# Altium integrated library TI Amplifiers and Linear PGA-VGA.IntLib: 149 symbols (part 5 of 8)
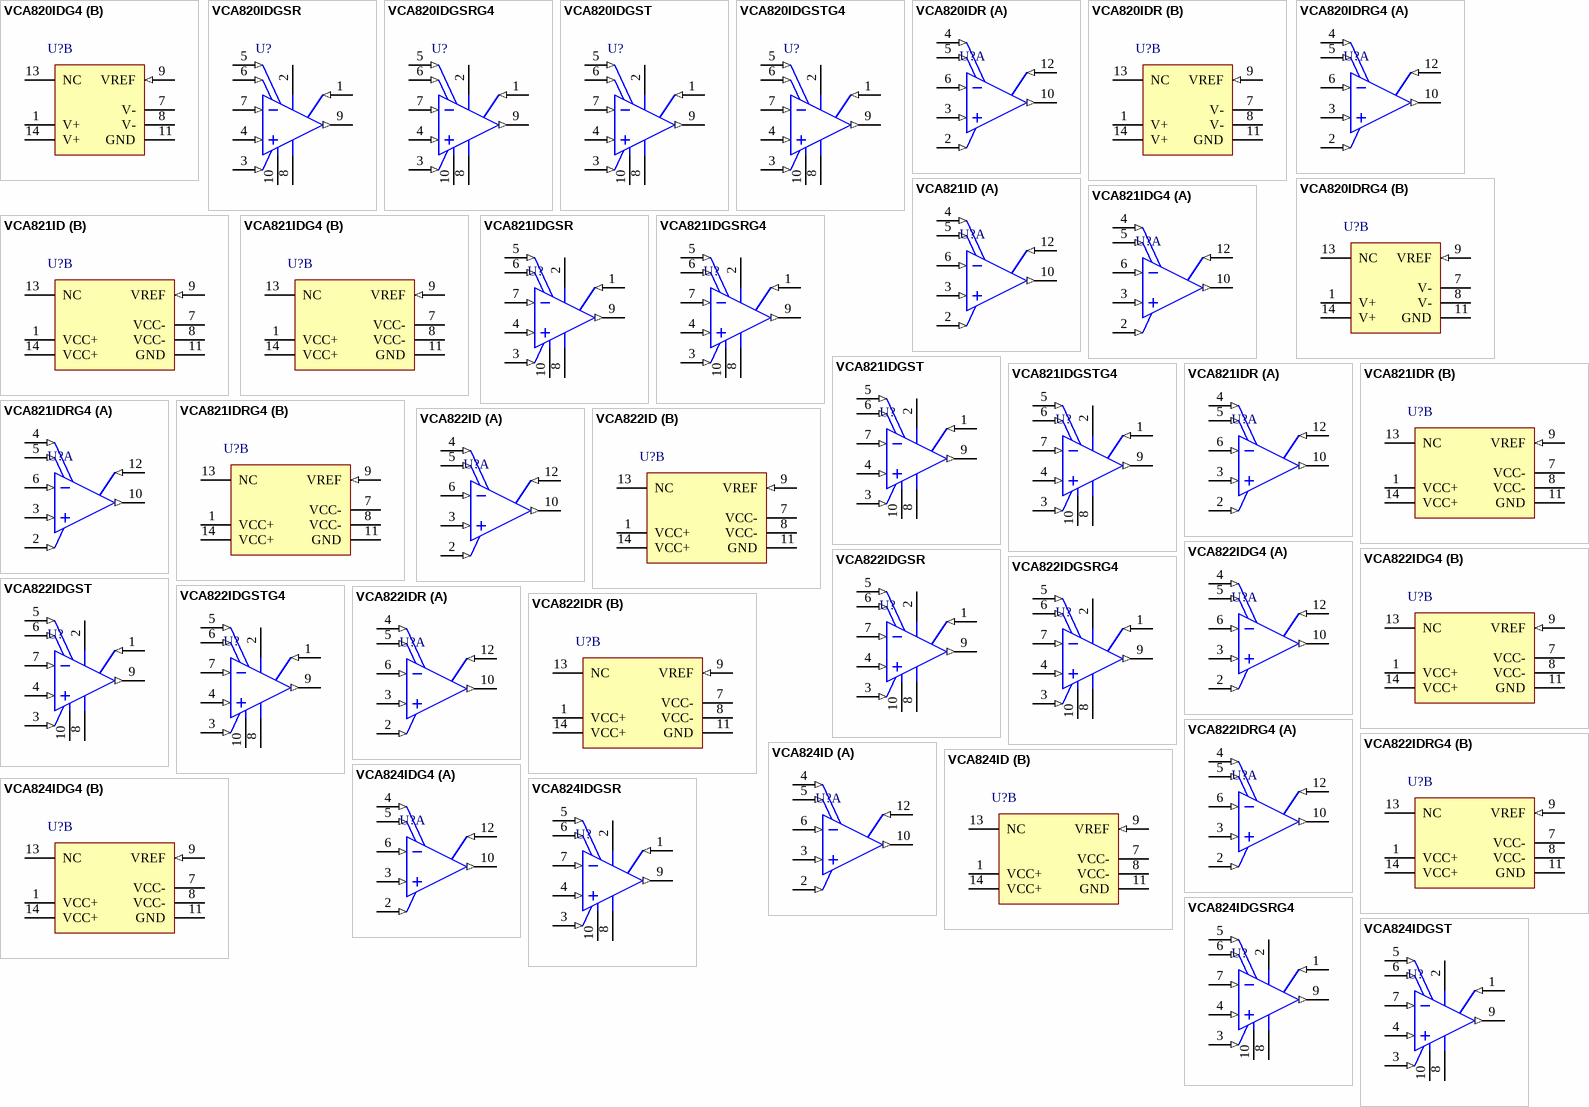
[diagram p11: symbols VCA820IDG4 to VCA824IDGST]

## VCA821IDGSTG4
designator U?
Wideband, > 40 dB Adjust Range, Linear in dB Variable Gain Amplifier, -40 to 85 degC, 10-pin SOP (DGS10), Green (RoHS & no Sb/Br); Manufacturer: Texas Instruments; PartNumber: VCA821IDGSTG4; BW @ Acl(MHz): 710; Iib(Max)(nA): 25000; Number of Channels: 1; Slew Rate(Typ)(V/us): 2500; Vio(Max)(mV): 17; Vn at Flatband(Typ)(nV/rtHz): 6; Vs(Max)(V): 12; Vs(Min)(V): 7; DatasheetVersion: SBOS407B; PackageVersion: 4073272/C, 02/2004; PackageReference: DGS10; PackageDescription: 10-Pin Plastic Small Outline, Body 3 x 3 mm, Pitch 0.5 mm; Supplier 1: Digi-Key; Supplier Part Number 1: VCA821IDGSTG4-ND; Supplier 2: Mouser; Supplier Part Number 2: 595-VCA821IDGSTG4; Eco-Plan: Green (RoHS & no Sb/Br); SubFamily: Variable Gain Amplifier; Mounting Technology: Surface Mount; Code_JEDEC: MO-153; ComponentLink1Description: Manufacturer URL; ComponentLink1URL: http://www.ti.com/; ComponentLink2Description: Datasheet; ComponentLink2URL: http://www.ti.com/general/docs/lit/getliterature.tsp?genericPartNumber=VCA821&fileType=pdf; ComponentLink3Description: Package Specification; ComponentLink3URL: http://www.ti.com/lit/ml/mpds035b/mpds035b.pdf
footprint TI-DGS10_N (SOP, 10-Leads, Body 3.1x3.1mm, Pitch 0.5mm, IPC Medium Density)
footprint TI-DGS10_L (SOP, 10-Leads, Body 3.1x3.1mm, Pitch 0.5mm, IPC High Density)
footprint TI-DGS10_M (SOP, 10-Leads, Body 3.1x3.1mm, Pitch 0.5mm, IPC Low Density)
pins: 1 FB (in), 2 VCC+ (power), 3 VG (in), 4 VIN+ (in), 5 RG+ (in), 6 RG- (in), 7 VIN- (in), 8 VCC- (power), 9 VOUT (out), 10 GND (power)

## VCA821IDR
designator U?
Wideband, > 40 dB Adjust Range, Linear in dB Variable Gain Amplifier, -40 to 85 degC, 14-pin SOIC (D14), Green (RoHS & no Sb/Br); Manufacturer: Texas Instruments; PartNumber: VCA821IDR; BW @ Acl(MHz): 710; Iib(Max)(nA): 25000; Number of Channels: 1; Slew Rate(Typ)(V/us): 2500; Vio(Max)(mV): 17; Vn at Flatband(Typ)(nV/rtHz): 6; Vs(Max)(V): 12; Vs(Min)(V): 7; DatasheetVersion: SBOS407B; PackageVersion: 4040047-5/M, 06/2011; PackageReference: D14; PackageDescription: 14-Pin Plastic Small Outline, Body 8.65 x 3.9 mm, Pitch 1.27 mm; Supplier 1: Digi-Key; Supplier Part Number 1: VCA821IDR-ND; Supplier 2: Mouser; Supplier Part Number 2: 595-VCA821IDR; Eco-Plan: Green (RoHS & no Sb/Br); SubFamily: Variable Gain Amplifier; Mounting Technology: Surface Mount; Code_JEDEC: MS-012; ComponentLink1Description: Manufacturer URL; ComponentLink1URL: http://www.ti.com/; ComponentLink2Description: Datasheet; ComponentLink2URL: http://www.ti.com/general/docs/lit/getliterature.tsp?genericPartNumber=VCA821&fileType=pdf; ComponentLink3Description: Package Specification; ComponentLink3URL: http://www.ti.com/lit/ml/mpds177g/mpds177g.pdf
footprint TI-D14_N (SOIC, 14-Leads, Body 8.75x4mm, Pitch 1.27mm, IPC Medium Density)
footprint TI-D14_L (SOIC, 14-Leads, Body 8.75x4mm, Pitch 1.27mm, IPC High Density)
footprint TI-D14_M (SOIC, 14-Leads, Body 8.75x4mm, Pitch 1.27mm, IPC Low Density)
part A pins: 2 VG (in), 3 VIN+ (in), 4 RG+ (in), 5 RG- (in), 6 VIN- (in), 10 VOUT (out), 12 FB (in)
part B pins: 1 VCC+ (power), 7 VCC- (power), 8 VCC- (power), 9 VREF (in), 11 GND (power), 13 NC, 14 VCC+ (power)

## VCA821IDRG4
designator U?
Wideband, > 40 dB Adjust Range, Linear in dB Variable Gain Amplifier, -40 to 85 degC, 14-pin SOIC (D14), Green (RoHS & no Sb/Br); Manufacturer: Texas Instruments; PartNumber: VCA821IDRG4; BW @ Acl(MHz): 710; Iib(Max)(nA): 25000; Number of Channels: 1; Slew Rate(Typ)(V/us): 2500; Vio(Max)(mV): 17; Vn at Flatband(Typ)(nV/rtHz): 6; Vs(Max)(V): 12; Vs(Min)(V): 7; DatasheetVersion: SBOS407B; PackageVersion: 4040047-5/M, 06/2011; PackageReference: D14; PackageDescription: 14-Pin Plastic Small Outline, Body 8.65 x 3.9 mm, Pitch 1.27 mm; Supplier 1: Digi-Key; Supplier Part Number 1: VCA821IDRG4-ND; Supplier 2: Mouser; Supplier Part Number 2: 595-VCA821IDRG4; Eco-Plan: Green (RoHS & no Sb/Br); SubFamily: Variable Gain Amplifier; Mounting Technology: Surface Mount; Code_JEDEC: MS-012; ComponentLink1Description: Manufacturer URL; ComponentLink1URL: http://www.ti.com/; ComponentLink2Description: Datasheet; ComponentLink2URL: http://www.ti.com/general/docs/lit/getliterature.tsp?genericPartNumber=VCA821&fileType=pdf; ComponentLink3Description: Package Specification; ComponentLink3URL: http://www.ti.com/lit/ml/mpds177g/mpds177g.pdf
footprint TI-D14_N (SOIC, 14-Leads, Body 8.75x4mm, Pitch 1.27mm, IPC Medium Density)
footprint TI-D14_L (SOIC, 14-Leads, Body 8.75x4mm, Pitch 1.27mm, IPC High Density)
footprint TI-D14_M (SOIC, 14-Leads, Body 8.75x4mm, Pitch 1.27mm, IPC Low Density)
part A pins: 2 VG (in), 3 VIN+ (in), 4 RG+ (in), 5 RG- (in), 6 VIN- (in), 10 VOUT (out), 12 FB (in)
part B pins: 1 VCC+ (power), 7 VCC- (power), 8 VCC- (power), 9 VREF (in), 11 GND (power), 13 NC, 14 VCC+ (power)

## VCA822ID
designator U?
Wideband, > 40 dB Gain Adjust Range, Linear in V/V Variable Gain Amplifier, -40 to 85 degC, 14-pin SOIC (D14), Green (RoHS & no Sb/Br); Manufacturer: Texas Instruments; PartNumber: VCA822ID; Iib(Max)(nA): 25000; Number of Channels: 1; Slew Rate(Typ)(V/us): 1700; Vio(Max)(mV): 17; Vn at Flatband(Typ)(nV/rtHz): 8.2; Vs(Max)(V): 12; Vs(Min)(V): 7; DatasheetVersion: SBOS343C; PackageVersion: 4040047-5/M, 06/2011; PackageReference: D14; PackageDescription: 14-Pin Plastic Small Outline, Body 8.65 x 3.9 mm, Pitch 1.27 mm; Supplier 1: Digi-Key; Supplier Part Number 1: 296-22682-5-ND; Supplier 2: Farnell; Supplier Part Number 2: 1755566; Supplier 3: Newark; Supplier Part Number 3: 50R6972; Supplier 4: Newark; Supplier Part Number 4: 60M2703; Supplier 5: Mouser; Supplier Part Number 5: 595-VCA822ID; Eco-Plan: Green (RoHS & no Sb/Br); SubFamily: Variable Gain Amplifier; Mounting Technology: Surface Mount; Code_JEDEC: MS-012; ComponentLink1Description: Manufacturer URL; ComponentLink1URL: http://www.ti.com/; ComponentLink2Description: Datasheet; ComponentLink2URL: http://www.ti.com/general/docs/lit/getliterature.tsp?genericPartNumber=VCA822&fileType=pdf; ComponentLink3Description: Package Specification; ComponentLink3URL: http://www.ti.com/lit/ml/mpds177g/mpds177g.pdf
footprint TI-D14_N (SOIC, 14-Leads, Body 8.75x4mm, Pitch 1.27mm, IPC Medium Density)
footprint TI-D14_L (SOIC, 14-Leads, Body 8.75x4mm, Pitch 1.27mm, IPC High Density)
footprint TI-D14_M (SOIC, 14-Leads, Body 8.75x4mm, Pitch 1.27mm, IPC Low Density)
part A pins: 2 VG (in), 3 VIN+ (in), 4 RG+ (in), 5 RG- (in), 6 VIN- (in), 10 VOUT (out), 12 FB (in)
part B pins: 1 VCC+ (power), 7 VCC- (power), 8 VCC- (power), 9 VREF (in), 11 GND (power), 13 NC, 14 VCC+ (power)

## VCA822IDG4
designator U?
Wideband, > 40 dB Gain Adjust Range, Linear in V/V Variable Gain Amplifier, -40 to 85 degC, 14-pin SOIC (D14), Green (RoHS & no Sb/Br); Manufacturer: Texas Instruments; PartNumber: VCA822IDG4; Iib(Max)(nA): 25000; Number of Channels: 1; Slew Rate(Typ)(V/us): 1700; Vio(Max)(mV): 17; Vn at Flatband(Typ)(nV/rtHz): 8.2; Vs(Max)(V): 12; Vs(Min)(V): 7; DatasheetVersion: SBOS343C; PackageVersion: 4040047-5/M, 06/2011; PackageReference: D14; PackageDescription: 14-Pin Plastic Small Outline, Body 8.65 x 3.9 mm, Pitch 1.27 mm; Supplier 1: Digi-Key; Supplier Part Number 1: VCA822IDG4-ND; Supplier 2: Mouser; Supplier Part Number 2: 595-VCA822IDG4; Eco-Plan: Green (RoHS & no Sb/Br); SubFamily: Variable Gain Amplifier; Mounting Technology: Surface Mount; Code_JEDEC: MS-012; ComponentLink1Description: Manufacturer URL; ComponentLink1URL: http://www.ti.com/; ComponentLink2Description: Datasheet; ComponentLink2URL: http://www.ti.com/general/docs/lit/getliterature.tsp?genericPartNumber=VCA822&fileType=pdf; ComponentLink3Description: Package Specification; ComponentLink3URL: http://www.ti.com/lit/ml/mpds177g/mpds177g.pdf
footprint TI-D14_N (SOIC, 14-Leads, Body 8.75x4mm, Pitch 1.27mm, IPC Medium Density)
footprint TI-D14_L (SOIC, 14-Leads, Body 8.75x4mm, Pitch 1.27mm, IPC High Density)
footprint TI-D14_M (SOIC, 14-Leads, Body 8.75x4mm, Pitch 1.27mm, IPC Low Density)
part A pins: 2 VG (in), 3 VIN+ (in), 4 RG+ (in), 5 RG- (in), 6 VIN- (in), 10 VOUT (out), 12 FB (in)
part B pins: 1 VCC+ (power), 7 VCC- (power), 8 VCC- (power), 9 VREF (in), 11 GND (power), 13 NC, 14 VCC+ (power)

## VCA822IDGSR
designator U?
Wideband, > 40 dB Gain Adjust Range, Linear in V/V Variable Gain Amplifier, -40 to 85 degC, 10-pin SOP (DGS10), Green (RoHS & no Sb/Br); Manufacturer: Texas Instruments; PartNumber: VCA822IDGSR; Iib(Max)(nA): 25000; Number of Channels: 1; Slew Rate(Typ)(V/us): 1700; Vio(Max)(mV): 17; Vn at Flatband(Typ)(nV/rtHz): 8.2; Vs(Max)(V): 12; Vs(Min)(V): 7; DatasheetVersion: SBOS343C; PackageVersion: 4073272/C, 02/2004; PackageReference: DGS10; PackageDescription: 10-Pin Plastic Small Outline, Body 3 x 3 mm, Pitch 0.5 mm; Supplier 1: Digi-Key; Supplier Part Number 1: VCA822IDGSR-ND; Supplier 2: Mouser; Supplier Part Number 2: 595-VCA822IDGSR; Eco-Plan: Green (RoHS & no Sb/Br); SubFamily: Variable Gain Amplifier; Mounting Technology: Surface Mount; Code_JEDEC: MO-153; ComponentLink1Description: Manufacturer URL; ComponentLink1URL: http://www.ti.com/; ComponentLink2Description: Datasheet; ComponentLink2URL: http://www.ti.com/general/docs/lit/getliterature.tsp?genericPartNumber=VCA822&fileType=pdf; ComponentLink3Description: Package Specification; ComponentLink3URL: http://www.ti.com/lit/ml/mpds035b/mpds035b.pdf
footprint TI-DGS10_N (SOP, 10-Leads, Body 3.1x3.1mm, Pitch 0.5mm, IPC Medium Density)
footprint TI-DGS10_L (SOP, 10-Leads, Body 3.1x3.1mm, Pitch 0.5mm, IPC High Density)
footprint TI-DGS10_M (SOP, 10-Leads, Body 3.1x3.1mm, Pitch 0.5mm, IPC Low Density)
pins: 1 FB (in), 2 VCC+ (power), 3 VG (in), 4 VIN+ (in), 5 RG+ (in), 6 RG- (in), 7 VIN- (in), 8 VCC- (power), 9 VOUT (out), 10 GND (power)

## VCA822IDGSRG4
designator U?
Wideband, > 40 dB Gain Adjust Range, Linear in V/V Variable Gain Amplifier, -40 to 85 degC, 10-pin SOP (DGS10), Green (RoHS & no Sb/Br); Manufacturer: Texas Instruments; PartNumber: VCA822IDGSRG4; Iib(Max)(nA): 25000; Number of Channels: 1; Slew Rate(Typ)(V/us): 1700; Vio(Max)(mV): 17; Vn at Flatband(Typ)(nV/rtHz): 8.2; Vs(Max)(V): 12; Vs(Min)(V): 7; DatasheetVersion: SBOS343C; PackageVersion: 4073272/C, 02/2004; PackageReference: DGS10; PackageDescription: 10-Pin Plastic Small Outline, Body 3 x 3 mm, Pitch 0.5 mm; Supplier 1: Digi-Key; Supplier Part Number 1: VCA822IDGSRG4-ND; Supplier 2: Mouser; Supplier Part Number 2: 595-VCA822IDGSRG4; Eco-Plan: Green (RoHS & no Sb/Br); SubFamily: Variable Gain Amplifier; Mounting Technology: Surface Mount; Code_JEDEC: MO-153; ComponentLink1Description: Manufacturer URL; ComponentLink1URL: http://www.ti.com/; ComponentLink2Description: Datasheet; ComponentLink2URL: http://www.ti.com/general/docs/lit/getliterature.tsp?genericPartNumber=VCA822&fileType=pdf; ComponentLink3Description: Package Specification; ComponentLink3URL: http://www.ti.com/lit/ml/mpds035b/mpds035b.pdf
footprint TI-DGS10_N (SOP, 10-Leads, Body 3.1x3.1mm, Pitch 0.5mm, IPC Medium Density)
footprint TI-DGS10_L (SOP, 10-Leads, Body 3.1x3.1mm, Pitch 0.5mm, IPC High Density)
footprint TI-DGS10_M (SOP, 10-Leads, Body 3.1x3.1mm, Pitch 0.5mm, IPC Low Density)
pins: 1 FB (in), 2 VCC+ (power), 3 VG (in), 4 VIN+ (in), 5 RG+ (in), 6 RG- (in), 7 VIN- (in), 8 VCC- (power), 9 VOUT (out), 10 GND (power)

## VCA822IDGST
designator U?
Wideband, > 40 dB Gain Adjust Range, Linear in V/V Variable Gain Amplifier, -40 to 85 degC, 10-pin SOP (DGS10), Green (RoHS & no Sb/Br); Manufacturer: Texas Instruments; PartNumber: VCA822IDGST; Iib(Max)(nA): 25000; Number of Channels: 1; Slew Rate(Typ)(V/us): 1700; Vio(Max)(mV): 17; Vn at Flatband(Typ)(nV/rtHz): 8.2; Vs(Max)(V): 12; Vs(Min)(V): 7; DatasheetVersion: SBOS343C; PackageVersion: 4073272/C, 02/2004; PackageReference: DGS10; PackageDescription: 10-Pin Plastic Small Outline, Body 3 x 3 mm, Pitch 0.5 mm; Supplier 1: Digi-Key; Supplier Part Number 1: 296-22683-2-ND; Supplier 2: Digi-Key; Supplier Part Number 2: 296-22683-1-ND; Supplier 3: Digi-Key; Supplier Part Number 3: 296-22683-6-ND; Supplier 4: Mouser; Supplier Part Number 4: 595-VCA822IDGST; Eco-Plan: Green (RoHS & no Sb/Br); SubFamily: Variable Gain Amplifier; Mounting Technology: Surface Mount; Code_JEDEC: MO-153; ComponentLink1Description: Manufacturer URL; ComponentLink1URL: http://www.ti.com/; ComponentLink2Description: Datasheet; ComponentLink2URL: http://www.ti.com/general/docs/lit/getliterature.tsp?genericPartNumber=VCA822&fileType=pdf; ComponentLink3Description: Package Specification; ComponentLink3URL: http://www.ti.com/lit/ml/mpds035b/mpds035b.pdf
footprint TI-DGS10_N (SOP, 10-Leads, Body 3.1x3.1mm, Pitch 0.5mm, IPC Medium Density)
footprint TI-DGS10_L (SOP, 10-Leads, Body 3.1x3.1mm, Pitch 0.5mm, IPC High Density)
footprint TI-DGS10_M (SOP, 10-Leads, Body 3.1x3.1mm, Pitch 0.5mm, IPC Low Density)
pins: 1 FB (in), 2 VCC+ (power), 3 VG (in), 4 VIN+ (in), 5 RG+ (in), 6 RG- (in), 7 VIN- (in), 8 VCC- (power), 9 VOUT (out), 10 GND (power)

## VCA822IDGSTG4
designator U?
Wideband, > 40 dB Gain Adjust Range, Linear in V/V Variable Gain Amplifier, -40 to 85 degC, 10-pin SOP (DGS10), Green (RoHS & no Sb/Br); Manufacturer: Texas Instruments; PartNumber: VCA822IDGSTG4; Iib(Max)(nA): 25000; Number of Channels: 1; Slew Rate(Typ)(V/us): 1700; Vio(Max)(mV): 17; Vn at Flatband(Typ)(nV/rtHz): 8.2; Vs(Max)(V): 12; Vs(Min)(V): 7; DatasheetVersion: SBOS343C; PackageVersion: 4073272/C, 02/2004; PackageReference: DGS10; PackageDescription: 10-Pin Plastic Small Outline, Body 3 x 3 mm, Pitch 0.5 mm; Supplier 1: Digi-Key; Supplier Part Number 1: VCA822IDGSTG4-ND; Supplier 2: Mouser; Supplier Part Number 2: 595-VCA822IDGSTG4; Eco-Plan: Green (RoHS & no Sb/Br); SubFamily: Variable Gain Amplifier; Mounting Technology: Surface Mount; Code_JEDEC: MO-153; ComponentLink1Description: Manufacturer URL; ComponentLink1URL: http://www.ti.com/; ComponentLink2Description: Datasheet; ComponentLink2URL: http://www.ti.com/general/docs/lit/getliterature.tsp?genericPartNumber=VCA822&fileType=pdf; ComponentLink3Description: Package Specification; ComponentLink3URL: http://www.ti.com/lit/ml/mpds035b/mpds035b.pdf
footprint TI-DGS10_N (SOP, 10-Leads, Body 3.1x3.1mm, Pitch 0.5mm, IPC Medium Density)
footprint TI-DGS10_L (SOP, 10-Leads, Body 3.1x3.1mm, Pitch 0.5mm, IPC High Density)
footprint TI-DGS10_M (SOP, 10-Leads, Body 3.1x3.1mm, Pitch 0.5mm, IPC Low Density)
pins: 1 FB (in), 2 VCC+ (power), 3 VG (in), 4 VIN+ (in), 5 RG+ (in), 6 RG- (in), 7 VIN- (in), 8 VCC- (power), 9 VOUT (out), 10 GND (power)

## VCA822IDR
designator U?
Wideband, > 40 dB Gain Adjust Range, Linear in V/V Variable Gain Amplifier, -40 to 85 degC, 14-pin SOIC (D14), Green (RoHS & no Sb/Br); Manufacturer: Texas Instruments; PartNumber: VCA822IDR; Iib(Max)(nA): 25000; Number of Channels: 1; Slew Rate(Typ)(V/us): 1700; Vio(Max)(mV): 17; Vn at Flatband(Typ)(nV/rtHz): 8.2; Vs(Max)(V): 12; Vs(Min)(V): 7; DatasheetVersion: SBOS343C; PackageVersion: 4040047-5/M, 06/2011; PackageReference: D14; PackageDescription: 14-Pin Plastic Small Outline, Body 8.65 x 3.9 mm, Pitch 1.27 mm; Supplier 1: Digi-Key; Supplier Part Number 1: VCA822IDR-ND; Supplier 2: Mouser; Supplier Part Number 2: 595-VCA822IDR; Eco-Plan: Green (RoHS & no Sb/Br); SubFamily: Variable Gain Amplifier; Mounting Technology: Surface Mount; Code_JEDEC: MS-012; ComponentLink1Description: Manufacturer URL; ComponentLink1URL: http://www.ti.com/; ComponentLink2Description: Datasheet; ComponentLink2URL: http://www.ti.com/general/docs/lit/getliterature.tsp?genericPartNumber=VCA822&fileType=pdf; ComponentLink3Description: Package Specification; ComponentLink3URL: http://www.ti.com/lit/ml/mpds177g/mpds177g.pdf
footprint TI-D14_N (SOIC, 14-Leads, Body 8.75x4mm, Pitch 1.27mm, IPC Medium Density)
footprint TI-D14_L (SOIC, 14-Leads, Body 8.75x4mm, Pitch 1.27mm, IPC High Density)
footprint TI-D14_M (SOIC, 14-Leads, Body 8.75x4mm, Pitch 1.27mm, IPC Low Density)
part A pins: 2 VG (in), 3 VIN+ (in), 4 RG+ (in), 5 RG- (in), 6 VIN- (in), 10 VOUT (out), 12 FB (in)
part B pins: 1 VCC+ (power), 7 VCC- (power), 8 VCC- (power), 9 VREF (in), 11 GND (power), 13 NC, 14 VCC+ (power)

## VCA822IDRG4
designator U?
Wideband, > 40 dB Gain Adjust Range, Linear in V/V Variable Gain Amplifier, -40 to 85 degC, 14-pin SOIC (D14), Green (RoHS & no Sb/Br); Manufacturer: Texas Instruments; PartNumber: VCA822IDRG4; Iib(Max)(nA): 25000; Number of Channels: 1; Slew Rate(Typ)(V/us): 1700; Vio(Max)(mV): 17; Vn at Flatband(Typ)(nV/rtHz): 8.2; Vs(Max)(V): 12; Vs(Min)(V): 7; DatasheetVersion: SBOS343C; PackageVersion: 4040047-5/M, 06/2011; PackageReference: D14; PackageDescription: 14-Pin Plastic Small Outline, Body 8.65 x 3.9 mm, Pitch 1.27 mm; Supplier 1: Digi-Key; Supplier Part Number 1: VCA822IDRG4-ND; Supplier 2: Newark; Supplier Part Number 2: 60M2710; Supplier 3: Mouser; Supplier Part Number 3: 595-VCA822IDRG4; Eco-Plan: Green (RoHS & no Sb/Br); SubFamily: Variable Gain Amplifier; Mounting Technology: Surface Mount; Code_JEDEC: MS-012; ComponentLink1Description: Manufacturer URL; ComponentLink1URL: http://www.ti.com/; ComponentLink2Description: Datasheet; ComponentLink2URL: http://www.ti.com/general/docs/lit/getliterature.tsp?genericPartNumber=VCA822&fileType=pdf; ComponentLink3Description: Package Specification; ComponentLink3URL: http://www.ti.com/lit/ml/mpds177g/mpds177g.pdf
footprint TI-D14_N (SOIC, 14-Leads, Body 8.75x4mm, Pitch 1.27mm, IPC Medium Density)
footprint TI-D14_L (SOIC, 14-Leads, Body 8.75x4mm, Pitch 1.27mm, IPC High Density)
footprint TI-D14_M (SOIC, 14-Leads, Body 8.75x4mm, Pitch 1.27mm, IPC Low Density)
part A pins: 2 VG (in), 3 VIN+ (in), 4 RG+ (in), 5 RG- (in), 6 VIN- (in), 10 VOUT (out), 12 FB (in)
part B pins: 1 VCC+ (power), 7 VCC- (power), 8 VCC- (power), 9 VREF (in), 11 GND (power), 13 NC, 14 VCC+ (power)

## VCA824ID
designator U?
Wideband 420 MHz, > 40 dB Gain Adjust Range, Linear in V/V Variable Gain Amplifier, -40 to 85 degC, 14-pin SOIC (D14), Green (RoHS & no Sb/Br); Manufacturer: Texas Instruments; PartNumber: VCA824ID; BW @ Acl(MHz): 710; Iib(Max)(nA): 25000; Number of Channels: 1; Slew Rate(Typ)(V/us): 2500; Vio(Max)(mV): 17; Vn at Flatband(Typ)(nV/rtHz): 6; Vs(Max)(V): 12; Vs(Min)(V): 8; DatasheetVersion: SBOS394C; PackageVersion: 4040047-5/M, 06/2011; PackageReference: D14; PackageDescription: 14-Pin Plastic Small Outline, Body 8.65 x 3.9 mm, Pitch 1.27 mm; Supplier 1: Digi-Key; Supplier Part Number 1: 296-22898-5-ND; Supplier 2: Farnell; Supplier Part Number 2: 1755567; Supplier 3: Newark; Supplier Part Number 3: 50R6973; Supplier 4: Newark; Supplier Part Number 4: 65M6471; Supplier 5: Mouser; Supplier Part Number 5: 595-VCA824ID; Eco-Plan: Green (RoHS & no Sb/Br); SubFamily: Variable Gain Amplifier; Mounting Technology: Surface Mount; Code_JEDEC: MS-012; ComponentLink1Description: Manufacturer URL; ComponentLink1URL: http://www.ti.com/; ComponentLink2Description: Datasheet; ComponentLink2URL: http://www.ti.com/general/docs/lit/getliterature.tsp?genericPartNumber=VCA824&fileType=pdf; ComponentLink3Description: Package Specification; ComponentLink3URL: http://www.ti.com/lit/ml/mpds177g/mpds177g.pdf
footprint TI-D14_N (SOIC, 14-Leads, Body 8.75x4mm, Pitch 1.27mm, IPC Medium Density)
footprint TI-D14_L (SOIC, 14-Leads, Body 8.75x4mm, Pitch 1.27mm, IPC High Density)
footprint TI-D14_M (SOIC, 14-Leads, Body 8.75x4mm, Pitch 1.27mm, IPC Low Density)
part A pins: 2 VG (in), 3 VIN+ (in), 4 RG+ (in), 5 RG- (in), 6 VIN- (in), 10 VOUT (out), 12 FB (in)
part B pins: 1 VCC+ (power), 7 VCC- (power), 8 VCC- (power), 9 VREF (in), 11 GND (power), 13 NC, 14 VCC+ (power)

## VCA824IDG4
designator U?
Wideband 420 MHz, > 40 dB Gain Adjust Range, Linear in V/V Variable Gain Amplifier, -40 to 85 degC, 14-pin SOIC (D14), Green (RoHS & no Sb/Br); Manufacturer: Texas Instruments; PartNumber: VCA824IDG4; BW @ Acl(MHz): 710; Iib(Max)(nA): 25000; Number of Channels: 1; Slew Rate(Typ)(V/us): 2500; Vio(Max)(mV): 17; Vn at Flatband(Typ)(nV/rtHz): 6; Vs(Max)(V): 12; Vs(Min)(V): 8; DatasheetVersion: SBOS394C; PackageVersion: 4040047-5/M, 06/2011; PackageReference: D14; PackageDescription: 14-Pin Plastic Small Outline, Body 8.65 x 3.9 mm, Pitch 1.27 mm; Supplier 1: Digi-Key; Supplier Part Number 1: VCA824IDG4-ND; Supplier 2: Newark; Supplier Part Number 2: 95M0220; Supplier 3: Mouser; Supplier Part Number 3: 595-VCA824IDG4; Eco-Plan: Green (RoHS & no Sb/Br); SubFamily: Variable Gain Amplifier; Mounting Technology: Surface Mount; Code_JEDEC: MS-012; ComponentLink1Description: Manufacturer URL; ComponentLink1URL: http://www.ti.com/; ComponentLink2Description: Datasheet; ComponentLink2URL: http://www.ti.com/general/docs/lit/getliterature.tsp?genericPartNumber=VCA824&fileType=pdf; ComponentLink3Description: Package Specification; ComponentLink3URL: http://www.ti.com/lit/ml/mpds177g/mpds177g.pdf
footprint TI-D14_N (SOIC, 14-Leads, Body 8.75x4mm, Pitch 1.27mm, IPC Medium Density)
footprint TI-D14_L (SOIC, 14-Leads, Body 8.75x4mm, Pitch 1.27mm, IPC High Density)
footprint TI-D14_M (SOIC, 14-Leads, Body 8.75x4mm, Pitch 1.27mm, IPC Low Density)
part A pins: 2 VG (in), 3 VIN+ (in), 4 RG+ (in), 5 RG- (in), 6 VIN- (in), 10 VOUT (out), 12 FB (in)
part B pins: 1 VCC+ (power), 7 VCC- (power), 8 VCC- (power), 9 VREF (in), 11 GND (power), 13 NC, 14 VCC+ (power)

## VCA824IDGSR
designator U?
Wideband 420 MHz, > 40 dB Gain Adjust Range, Linear in V/V Variable Gain Amplifier, -40 to 85 degC, 10-pin SOP (DGS10), Green (RoHS & no Sb/Br); Manufacturer: Texas Instruments; PartNumber: VCA824IDGSR; BW @ Acl(MHz): 710; Iib(Max)(nA): 25000; Number of Channels: 1; Slew Rate(Typ)(V/us): 2500; Vio(Max)(mV): 17; Vn at Flatband(Typ)(nV/rtHz): 6; Vs(Max)(V): 12; Vs(Min)(V): 8; DatasheetVersion: SBOS394C; PackageVersion: 4073272/C, 02/2004; PackageReference: DGS10; PackageDescription: 10-Pin Plastic Small Outline, Body 3 x 3 mm, Pitch 0.5 mm; Supplier 1: Digi-Key; Supplier Part Number 1: VCA824IDGSR-ND; Supplier 2: Mouser; Supplier Part Number 2: 595-VCA824IDSR; Eco-Plan: Green (RoHS & no Sb/Br); SubFamily: Variable Gain Amplifier; Mounting Technology: Surface Mount; Code_JEDEC: MO-153; ComponentLink1Description: Manufacturer URL; ComponentLink1URL: http://www.ti.com/; ComponentLink2Description: Datasheet; ComponentLink2URL: http://www.ti.com/general/docs/lit/getliterature.tsp?genericPartNumber=VCA824&fileType=pdf; ComponentLink3Description: Package Specification; ComponentLink3URL: http://www.ti.com/lit/ml/mpds035b/mpds035b.pdf
footprint TI-DGS10_N (SOP, 10-Leads, Body 3.1x3.1mm, Pitch 0.5mm, IPC Medium Density)
footprint TI-DGS10_L (SOP, 10-Leads, Body 3.1x3.1mm, Pitch 0.5mm, IPC High Density)
footprint TI-DGS10_M (SOP, 10-Leads, Body 3.1x3.1mm, Pitch 0.5mm, IPC Low Density)
pins: 1 FB (in), 2 VCC+ (power), 3 VG (in), 4 VIN+ (in), 5 RG+ (in), 6 RG- (in), 7 VIN- (in), 8 VCC- (power), 9 VOUT (out), 10 GND (power)

## VCA824IDGSRG4
designator U?
Wideband 420 MHz, > 40 dB Gain Adjust Range, Linear in V/V Variable Gain Amplifier, -40 to 85 degC, 10-pin SOP (DGS10), Green (RoHS & no Sb/Br); Manufacturer: Texas Instruments; PartNumber: VCA824IDGSRG4; BW @ Acl(MHz): 710; Iib(Max)(nA): 25000; Number of Channels: 1; Slew Rate(Typ)(V/us): 2500; Vio(Max)(mV): 17; Vn at Flatband(Typ)(nV/rtHz): 6; Vs(Max)(V): 12; Vs(Min)(V): 8; DatasheetVersion: SBOS394C; PackageVersion: 4073272/C, 02/2004; PackageReference: DGS10; PackageDescription: 10-Pin Plastic Small Outline, Body 3 x 3 mm, Pitch 0.5 mm; Supplier 1: Digi-Key; Supplier Part Number 1: VCA824IDGSRG4-ND; Supplier 2: Mouser; Supplier Part Number 2: 595-VCA824IDGSRG4; Eco-Plan: Green (RoHS & no Sb/Br); SubFamily: Variable Gain Amplifier; Mounting Technology: Surface Mount; Code_JEDEC: MO-153; ComponentLink1Description: Manufacturer URL; ComponentLink1URL: http://www.ti.com/; ComponentLink2Description: Datasheet; ComponentLink2URL: http://www.ti.com/general/docs/lit/getliterature.tsp?genericPartNumber=VCA824&fileType=pdf; ComponentLink3Description: Package Specification; ComponentLink3URL: http://www.ti.com/lit/ml/mpds035b/mpds035b.pdf
footprint TI-DGS10_N (SOP, 10-Leads, Body 3.1x3.1mm, Pitch 0.5mm, IPC Medium Density)
footprint TI-DGS10_L (SOP, 10-Leads, Body 3.1x3.1mm, Pitch 0.5mm, IPC High Density)
footprint TI-DGS10_M (SOP, 10-Leads, Body 3.1x3.1mm, Pitch 0.5mm, IPC Low Density)
pins: 1 FB (in), 2 VCC+ (power), 3 VG (in), 4 VIN+ (in), 5 RG+ (in), 6 RG- (in), 7 VIN- (in), 8 VCC- (power), 9 VOUT (out), 10 GND (power)

## VCA824IDGST
designator U?
Wideband 420 MHz, > 40 dB Gain Adjust Range, Linear in V/V Variable Gain Amplifier, -40 to 85 degC, 10-pin SOP (DGS10), Green (RoHS & no Sb/Br); Manufacturer: Texas Instruments; PartNumber: VCA824IDGST; BW @ Acl(MHz): 710; Iib(Max)(nA): 25000; Number of Channels: 1; Slew Rate(Typ)(V/us): 2500; Vio(Max)(mV): 17; Vn at Flatband(Typ)(nV/rtHz): 6; Vs(Max)(V): 12; Vs(Min)(V): 8; DatasheetVersion: SBOS394C; PackageVersion: 4073272/C, 02/2004; PackageReference: DGS10; PackageDescription: 10-Pin Plastic Small Outline, Body 3 x 3 mm, Pitch 0.5 mm; Supplier 1: Digi-Key; Supplier Part Number 1: 296-22899-2-ND; Supplier 2: Digi-Key; Supplier Part Number 2: 296-22899-1-ND; Supplier 3: Digi-Key; Supplier Part Number 3: 296-22899-6-ND; Supplier 4: Newark; Supplier Part Number 4: 03P0896; Supplier 5: Mouser; Supplier Part Number 5: 595-VCA824IDGST; Eco-Plan: Green (RoHS & no Sb/Br); SubFamily: Variable Gain Amplifier; Mounting Technology: Surface Mount; Code_JEDEC: MO-153; ComponentLink1Description: Manufacturer URL; ComponentLink1URL: http://www.ti.com/; ComponentLink2Description: Datasheet; ComponentLink2URL: http://www.ti.com/general/docs/lit/getliterature.tsp?genericPartNumber=VCA824&fileType=pdf; ComponentLink3Description: Package Specification; ComponentLink3URL: http://www.ti.com/lit/ml/mpds035b/mpds035b.pdf
footprint TI-DGS10_N (SOP, 10-Leads, Body 3.1x3.1mm, Pitch 0.5mm, IPC Medium Density)
footprint TI-DGS10_L (SOP, 10-Leads, Body 3.1x3.1mm, Pitch 0.5mm, IPC High Density)
footprint TI-DGS10_M (SOP, 10-Leads, Body 3.1x3.1mm, Pitch 0.5mm, IPC Low Density)
pins: 1 FB (in), 2 VCC+ (power), 3 VG (in), 4 VIN+ (in), 5 RG+ (in), 6 RG- (in), 7 VIN- (in), 8 VCC- (power), 9 VOUT (out), 10 GND (power)

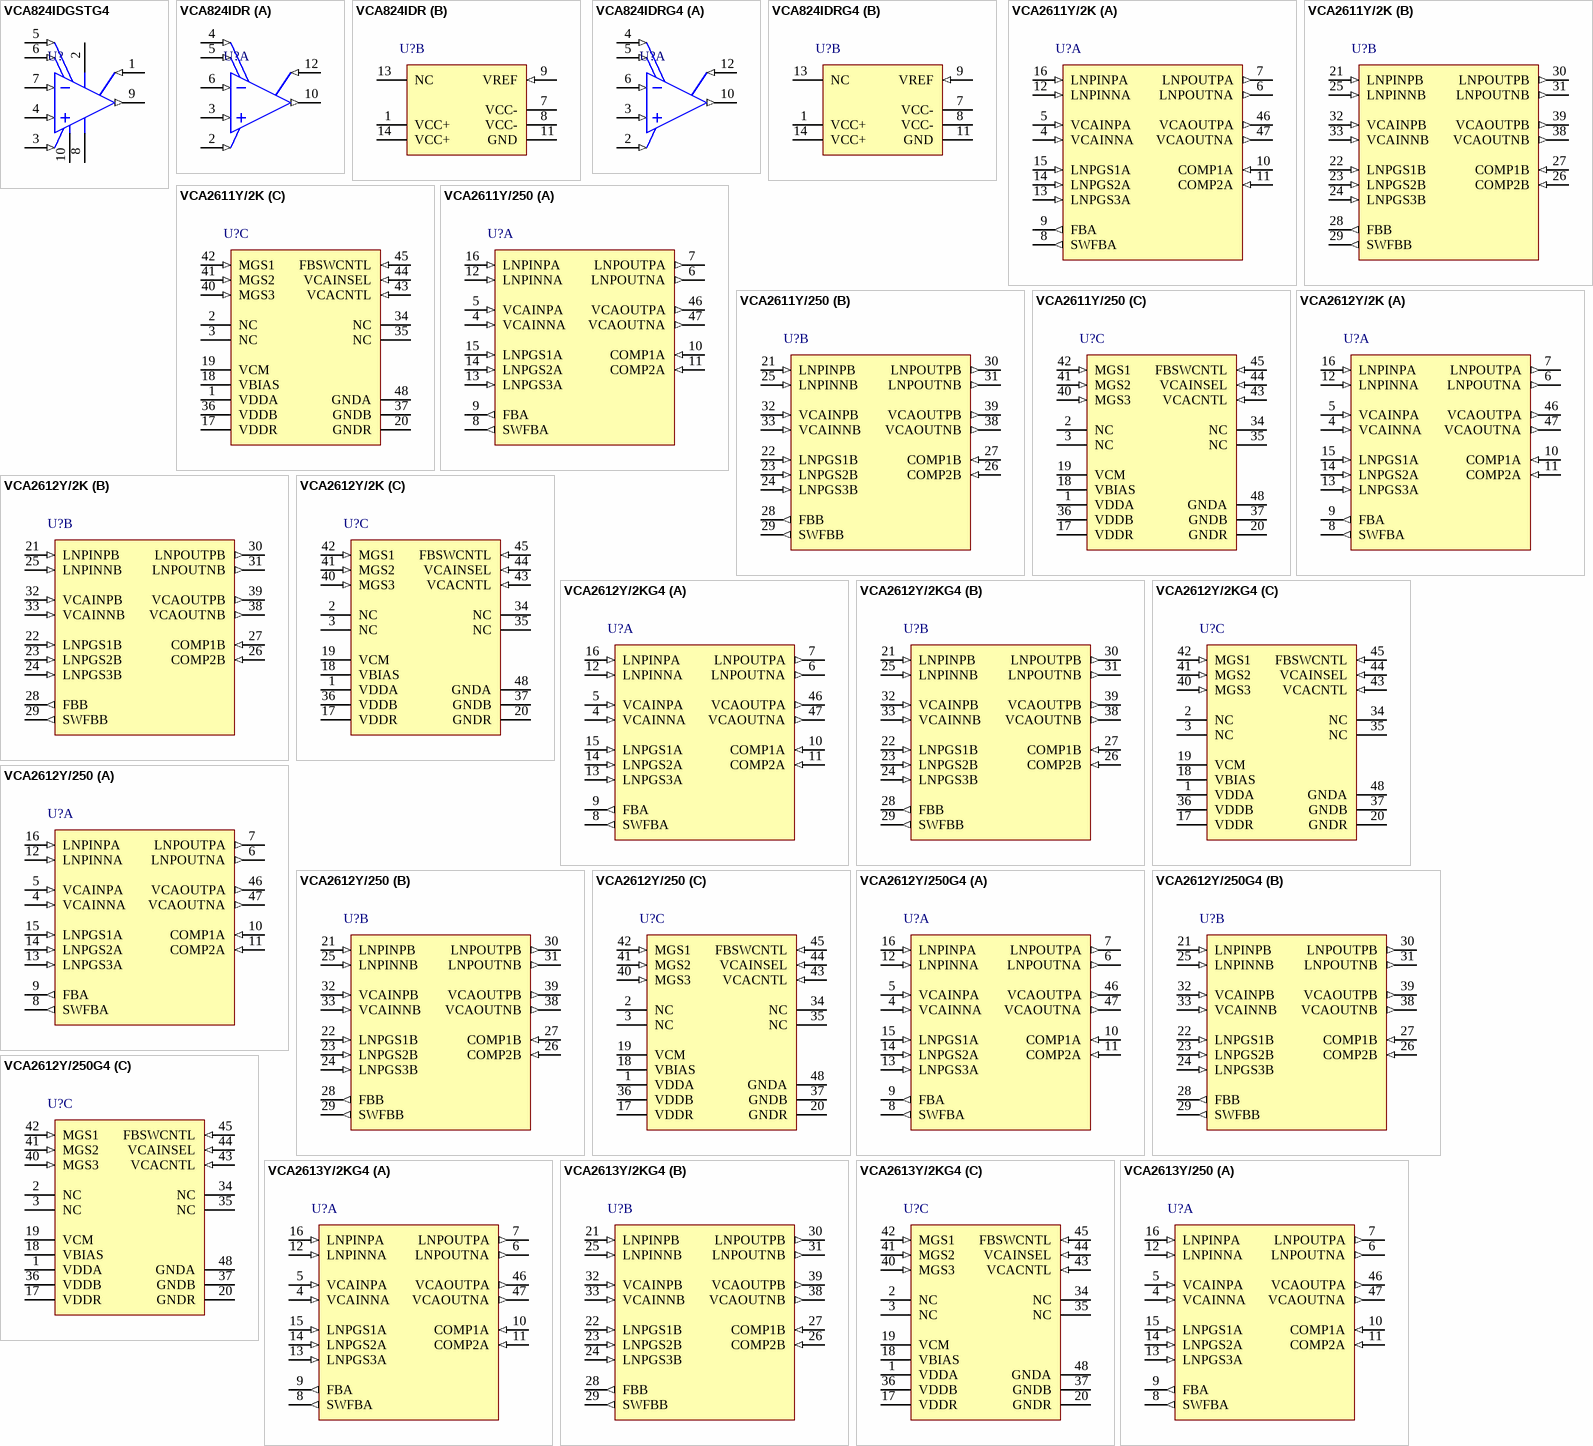
[diagram p4: symbols VCA824IDGSTG4 to VCA2613Y/250]

## VCA824IDGSTG4
designator U?
Wideband 420 MHz, > 40 dB Gain Adjust Range, Linear in V/V Variable Gain Amplifier, -40 to 85 degC, 10-pin SOP (DGS10), Green (RoHS & no Sb/Br); Manufacturer: Texas Instruments; PartNumber: VCA824IDGSTG4; BW @ Acl(MHz): 710; Iib(Max)(nA): 25000; Number of Channels: 1; Slew Rate(Typ)(V/us): 2500; Vio(Max)(mV): 17; Vn at Flatband(Typ)(nV/rtHz): 6; Vs(Max)(V): 12; Vs(Min)(V): 8; DatasheetVersion: SBOS394C; PackageVersion: 4073272/C, 02/2004; PackageReference: DGS10; PackageDescription: 10-Pin Plastic Small Outline, Body 3 x 3 mm, Pitch 0.5 mm; Supplier 1: Digi-Key; Supplier Part Number 1: VCA824IDGSTG4-ND; Supplier 2: Mouser; Supplier Part Number 2: 595-VCA824IDGSTG4; Eco-Plan: Green (RoHS & no Sb/Br); SubFamily: Variable Gain Amplifier; Mounting Technology: Surface Mount; Code_JEDEC: MO-153; ComponentLink1Description: Manufacturer URL; ComponentLink1URL: http://www.ti.com/; ComponentLink2Description: Datasheet; ComponentLink2URL: http://www.ti.com/general/docs/lit/getliterature.tsp?genericPartNumber=VCA824&fileType=pdf; ComponentLink3Description: Package Specification; ComponentLink3URL: http://www.ti.com/lit/ml/mpds035b/mpds035b.pdf
footprint TI-DGS10_N (SOP, 10-Leads, Body 3.1x3.1mm, Pitch 0.5mm, IPC Medium Density)
footprint TI-DGS10_L (SOP, 10-Leads, Body 3.1x3.1mm, Pitch 0.5mm, IPC High Density)
footprint TI-DGS10_M (SOP, 10-Leads, Body 3.1x3.1mm, Pitch 0.5mm, IPC Low Density)
pins: 1 FB (in), 2 VCC+ (power), 3 VG (in), 4 VIN+ (in), 5 RG+ (in), 6 RG- (in), 7 VIN- (in), 8 VCC- (power), 9 VOUT (out), 10 GND (power)

## VCA824IDR
designator U?
Wideband 420 MHz, > 40 dB Gain Adjust Range, Linear in V/V Variable Gain Amplifier, -40 to 85 degC, 14-pin SOIC (D14), Green (RoHS & no Sb/Br); Manufacturer: Texas Instruments; PartNumber: VCA824IDR; BW @ Acl(MHz): 710; Iib(Max)(nA): 25000; Number of Channels: 1; Slew Rate(Typ)(V/us): 2500; Vio(Max)(mV): 17; Vn at Flatband(Typ)(nV/rtHz): 6; Vs(Max)(V): 12; Vs(Min)(V): 8; DatasheetVersion: SBOS394C; PackageVersion: 4040047-5/M, 06/2011; PackageReference: D14; PackageDescription: 14-Pin Plastic Small Outline, Body 8.65 x 3.9 mm, Pitch 1.27 mm; Supplier 1: Digi-Key; Supplier Part Number 1: VCA824IDR-ND; Supplier 2: Mouser; Supplier Part Number 2: 595-VCA824IDR; Eco-Plan: Green (RoHS & no Sb/Br); SubFamily: Variable Gain Amplifier; Mounting Technology: Surface Mount; Code_JEDEC: MS-012; ComponentLink1Description: Manufacturer URL; ComponentLink1URL: http://www.ti.com/; ComponentLink2Description: Datasheet; ComponentLink2URL: http://www.ti.com/general/docs/lit/getliterature.tsp?genericPartNumber=VCA824&fileType=pdf; ComponentLink3Description: Package Specification; ComponentLink3URL: http://www.ti.com/lit/ml/mpds177g/mpds177g.pdf
footprint TI-D14_N (SOIC, 14-Leads, Body 8.75x4mm, Pitch 1.27mm, IPC Medium Density)
footprint TI-D14_L (SOIC, 14-Leads, Body 8.75x4mm, Pitch 1.27mm, IPC High Density)
footprint TI-D14_M (SOIC, 14-Leads, Body 8.75x4mm, Pitch 1.27mm, IPC Low Density)
part A pins: 2 VG (in), 3 VIN+ (in), 4 RG+ (in), 5 RG- (in), 6 VIN- (in), 10 VOUT (out), 12 FB (in)
part B pins: 1 VCC+ (power), 7 VCC- (power), 8 VCC- (power), 9 VREF (in), 11 GND (power), 13 NC, 14 VCC+ (power)

## VCA824IDRG4
designator U?
Wideband 420 MHz, > 40 dB Gain Adjust Range, Linear in V/V Variable Gain Amplifier, -40 to 85 degC, 14-pin SOIC (D14), Green (RoHS & no Sb/Br); Manufacturer: Texas Instruments; PartNumber: VCA824IDRG4; BW @ Acl(MHz): 710; Iib(Max)(nA): 25000; Number of Channels: 1; Slew Rate(Typ)(V/us): 2500; Vio(Max)(mV): 17; Vn at Flatband(Typ)(nV/rtHz): 6; Vs(Max)(V): 12; Vs(Min)(V): 8; DatasheetVersion: SBOS394C; PackageVersion: 4040047-5/M, 06/2011; PackageReference: D14; PackageDescription: 14-Pin Plastic Small Outline, Body 8.65 x 3.9 mm, Pitch 1.27 mm; Supplier 1: Digi-Key; Supplier Part Number 1: VCA824IDRG4-ND; Supplier 2: Mouser; Supplier Part Number 2: 595-VCA824IDRG4; Eco-Plan: Green (RoHS & no Sb/Br); SubFamily: Variable Gain Amplifier; Mounting Technology: Surface Mount; Code_JEDEC: MS-012; ComponentLink1Description: Manufacturer URL; ComponentLink1URL: http://www.ti.com/; ComponentLink2Description: Datasheet; ComponentLink2URL: http://www.ti.com/general/docs/lit/getliterature.tsp?genericPartNumber=VCA824&fileType=pdf; ComponentLink3Description: Package Specification; ComponentLink3URL: http://www.ti.com/lit/ml/mpds177g/mpds177g.pdf
footprint TI-D14_N (SOIC, 14-Leads, Body 8.75x4mm, Pitch 1.27mm, IPC Medium Density)
footprint TI-D14_L (SOIC, 14-Leads, Body 8.75x4mm, Pitch 1.27mm, IPC High Density)
footprint TI-D14_M (SOIC, 14-Leads, Body 8.75x4mm, Pitch 1.27mm, IPC Low Density)
part A pins: 2 VG (in), 3 VIN+ (in), 4 RG+ (in), 5 RG- (in), 6 VIN- (in), 10 VOUT (out), 12 FB (in)
part B pins: 1 VCC+ (power), 7 VCC- (power), 8 VCC- (power), 9 VREF (in), 11 GND (power), 13 NC, 14 VCC+ (power)

## VCA2611Y/2K
designator U?
Dual Variable Gain Amplifier with Low Noise Pre-Amplifier, -40 to 85 degC, 48-pin QFP (PFB48), Green (RoHS & no Sb/Br); Manufacturer: Texas Instruments; PartNumber: VCA2611Y/2K; BW @ Acl(MHz): 40; Iib(Max)(nA): 1; Number of Channels: 2; Slew Rate(Typ)(V/us): 300; Vn at Flatband(Typ)(nV/rtHz): 4.2; Vs(Max)(V): 5.25; Vs(Min)(V): 4.75; DatasheetVersion: SBOS234E; PackageVersion: 4073176/B, 10/1996; PackageReference: PFB48; PackageDescription: 48-Pin Plastic Flat Pack, Body 7 x 7 mm, Pitch 0.5 mm; Supplier 1: Digi-Key; Supplier Part Number 1: VCA2611Y/2K-ND; Supplier 2: Mouser; Supplier Part Number 2: 595-VCA2611Y/2K; Eco-Plan: Green (RoHS & no Sb/Br); SubFamily: Variable Gain Amplifier; Mounting Technology: Surface Mount; Code_JEDEC: MS-026; ComponentLink1Description: Manufacturer URL; ComponentLink1URL: http://www.ti.com/; ComponentLink2Description: Datasheet; ComponentLink2URL: http://www.ti.com/general/docs/lit/getliterature.tsp?genericPartNumber=VCA2611&fileType=pdf; ComponentLink3Description: Package Specification; ComponentLink3URL: http://www.ti.com/lit/ml/mtqf019a/mtqf019a.pdf
footprint TI-PFB48_N (QFP, 48-Leads, Body 7x7mm, Pitch 0.5mm, IPC Medium Density)
footprint TI-PFB48_L (QFP, 48-Leads, Body 7x7mm, Pitch 0.5mm, IPC High Density)
footprint TI-PFB48_M (QFP, 48-Leads, Body 7x7mm, Pitch 0.5mm, IPC Low Density)
part A pins: 4 VCAINNA (in) "Channel A VCA Negative Input", 5 VCAINPA (in) "Channel A VCA Positive Input", 6 LNPOUTNA (out) "Channel A LNP Negative Output", 7 LNPOUTPA (out) "Channel A LNP Positive Output", 8 SWFBA (out) "Channel A Switched Feedback Output", 9 FBA (out) "Channel A Feedback Output", 10 COMP1A (in) "Channel A Frequency Compensation 1", 11 COMP2A (in) "Channel A Frequency Compensation 2", 12 LNPINNA (in) "Channel A LNP Inverting Input", 13 LNPGS3A (in) "Channel A LNP Gain Strap 3", 14 LNPGS2A (in) "Channel A LNP Gain Strap 2", 15 LNPGS1A (in) "Channel A LNP Gain Strap 1", 16 LNPINPA (in) "Channel A LNP Noninverting Input", 46 VCAOUTPA (out) "Channel A VCA Positive Output", 47 VCAOUTNA (out) "Channel A VCA Negative Output"
part B pins: 21 LNPINPB (in) "Channel B LNP Noninverting Input", 22 LNPGS1B (in) "Channel B LNP Gain Strap 1", 23 LNPGS2B (in) "Channel B LNP Gain Strap 2", 24 LNPGS3B (in) "Channel B LNP Gain Strap 3", 25 LNPINNB (in) "Channel B LNP Inverting Input", 26 COMP2B (in) "Channel B Frequency Compensation 2", 27 COMP1B (in) "Channel B Frequency Compensation 1", 28 FBB (out) "Channel B Feedback Output", 29 SWFBB (out) "Channel B Switched Feedback Output", 30 LNPOUTPB (out) "Channel B LNP Positive Output", 31 LNPOUTNB (out) "Channel B LNP Negative Output", 32 VCAINPB (in) "Channel B VCA Positive Input", 33 VCAINNB (in) "Channel B VCA Negative Input", 38 VCAOUTNB (out) "Channel B VCA Negative Output", 39 VCAOUTPB (out) "Channel B VCA Positive Output"
part C pins: 1 VDDA (power) "Channel A +Supply", 2 NC "Do Not Connect", 3 NC "Do Not Connect", 17 VDDR (power) "+Supply for Internal Reference", 18 VBIAS (power) "0.01uF Bypass to Ground", 19 VCM (power) "0.01uF Bypass to Ground", 20 GNDR (power) "Ground for Internal Reference", 34 NC "Do Not Connect", 35 NC "Do Not Connect", 36 VDDB (power) "Channel B +Analog Supply", 37 GNDB (power) "Channel B Analog Ground", 40 MGS3 (in) "Maximum Gain Select 3 (LSB)", 41 MGS2 (in) "Maximum Gain Select 2", 42 MGS1 (in) "Maximum Gain Select 1 (MSB)", 43 VCACNTL (in) "VCA Control Voltage", 44 VCAINSEL (in) "VCA Input Select, HI = External", 45 FBSWCNTL (in) "Feedback Switch Control: HI = ON", 48 GNDA (power) "Channel A Analog Ground"

## VCA2611Y/250
designator U?
Dual Variable Gain Amplifier with Low Noise Pre-Amplifier, -40 to 85 degC, 48-pin QFP (PFB48); Manufacturer: Texas Instruments; PartNumber: VCA2611Y/250; BW @ Acl(MHz): 40; Iib(Max)(nA): 1; Number of Channels: 2; Slew Rate(Typ)(V/us): 300; Vn at Flatband(Typ)(nV/rtHz): 4.2; Vs(Max)(V): 5.25; Vs(Min)(V): 4.75; DatasheetVersion: SBOS234E; PackageVersion: 4073176/B, 10/1996; PackageReference: PFB48; PackageDescription: 48-Pin Plastic Flat Pack, Body 7 x 7 mm, Pitch 0.5 mm; Supplier 1: Digi-Key; Supplier Part Number 1: 296-15778-2-ND; Supplier 2: Digi-Key; Supplier Part Number 2: 296-15778-1-ND; Supplier 3: Digi-Key; Supplier Part Number 3: 296-15778-6-ND; Supplier 4: Newark; Supplier Part Number 4: 87H4806; Supplier 5: Mouser; Supplier Part Number 5: 595-VCA2611Y/250; SubFamily: Variable Gain Amplifier; Mounting Technology: Surface Mount; Code_JEDEC: MS-026; ComponentLink1Description: Manufacturer URL; ComponentLink1URL: http://www.ti.com/; ComponentLink2Description: Datasheet; ComponentLink2URL: http://www.ti.com/general/docs/lit/getliterature.tsp?genericPartNumber=VCA2611&fileType=pdf; ComponentLink3Description: Package Specification; ComponentLink3URL: http://www.ti.com/lit/ml/mtqf019a/mtqf019a.pdf
footprint TI-PFB48_N (QFP, 48-Leads, Body 7x7mm, Pitch 0.5mm, IPC Medium Density)
footprint TI-PFB48_L (QFP, 48-Leads, Body 7x7mm, Pitch 0.5mm, IPC High Density)
footprint TI-PFB48_M (QFP, 48-Leads, Body 7x7mm, Pitch 0.5mm, IPC Low Density)
part A pins: 4 VCAINNA (in) "Channel A VCA Negative Input", 5 VCAINPA (in) "Channel A VCA Positive Input", 6 LNPOUTNA (out) "Channel A LNP Negative Output", 7 LNPOUTPA (out) "Channel A LNP Positive Output", 8 SWFBA (out) "Channel A Switched Feedback Output", 9 FBA (out) "Channel A Feedback Output", 10 COMP1A (in) "Channel A Frequency Compensation 1", 11 COMP2A (in) "Channel A Frequency Compensation 2", 12 LNPINNA (in) "Channel A LNP Inverting Input", 13 LNPGS3A (in) "Channel A LNP Gain Strap 3", 14 LNPGS2A (in) "Channel A LNP Gain Strap 2", 15 LNPGS1A (in) "Channel A LNP Gain Strap 1", 16 LNPINPA (in) "Channel A LNP Noninverting Input", 46 VCAOUTPA (out) "Channel A VCA Positive Output", 47 VCAOUTNA (out) "Channel A VCA Negative Output"
part B pins: 21 LNPINPB (in) "Channel B LNP Noninverting Input", 22 LNPGS1B (in) "Channel B LNP Gain Strap 1", 23 LNPGS2B (in) "Channel B LNP Gain Strap 2", 24 LNPGS3B (in) "Channel B LNP Gain Strap 3", 25 LNPINNB (in) "Channel B LNP Inverting Input", 26 COMP2B (in) "Channel B Frequency Compensation 2", 27 COMP1B (in) "Channel B Frequency Compensation 1", 28 FBB (out) "Channel B Feedback Output", 29 SWFBB (out) "Channel B Switched Feedback Output", 30 LNPOUTPB (out) "Channel B LNP Positive Output", 31 LNPOUTNB (out) "Channel B LNP Negative Output", 32 VCAINPB (in) "Channel B VCA Positive Input", 33 VCAINNB (in) "Channel B VCA Negative Input", 38 VCAOUTNB (out) "Channel B VCA Negative Output", 39 VCAOUTPB (out) "Channel B VCA Positive Output"
part C pins: 1 VDDA (power) "Channel A +Supply", 2 NC "Do Not Connect", 3 NC "Do Not Connect", 17 VDDR (power) "+Supply for Internal Reference", 18 VBIAS (power) "0.01uF Bypass to Ground", 19 VCM (power) "0.01uF Bypass to Ground", 20 GNDR (power) "Ground for Internal Reference", 34 NC "Do Not Connect", 35 NC "Do Not Connect", 36 VDDB (power) "Channel B +Analog Supply", 37 GNDB (power) "Channel B Analog Ground", 40 MGS3 (in) "Maximum Gain Select 3 (LSB)", 41 MGS2 (in) "Maximum Gain Select 2", 42 MGS1 (in) "Maximum Gain Select 1 (MSB)", 43 VCACNTL (in) "VCA Control Voltage", 44 VCAINSEL (in) "VCA Input Select, HI = External", 45 FBSWCNTL (in) "Feedback Switch Control: HI = ON", 48 GNDA (power) "Channel A Analog Ground"

## VCA2612Y/2K
designator U?
Dual Variable Gain Amplifier with Low Noise Pre-Amplifier, -40 to 85 degC, 48-pin QFP (PFB48), Green (RoHS & no Sb/Br); Manufacturer: Texas Instruments; PartNumber: VCA2612Y/2K; BW @ Acl(MHz): 40; Iib(Max)(nA): 1; Number of Channels: 2; Slew Rate(Typ)(V/us): 300; Vn at Flatband(Typ)(nV/rtHz): 3.5; Vs(Max)(V): 5.25; Vs(Min)(V): 4.75; DatasheetVersion: SBOS117C; PackageVersion: 4073176/B, 10/1996; PackageReference: PFB48; PackageDescription: 48-Pin Plastic Flat Pack, Body 7 x 7 mm, Pitch 0.5 mm; Supplier 1: Digi-Key; Supplier Part Number 1: VCA2612Y/2K-ND; Supplier 2: Newark; Supplier Part Number 2: 77C3572; Supplier 3: Mouser; Supplier Part Number 3: 595-VCA2612Y/2K; Eco-Plan: Green (RoHS & no Sb/Br); SubFamily: Variable Gain Amplifier; Mounting Technology: Surface Mount; Code_JEDEC: MS-026; ComponentLink1Description: Manufacturer URL; ComponentLink1URL: http://www.ti.com/; ComponentLink2Description: Datasheet; ComponentLink2URL: http://www.ti.com/general/docs/lit/getliterature.tsp?genericPartNumber=VCA2612&fileType=pdf; ComponentLink3Description: Package Specification; ComponentLink3URL: http://www.ti.com/lit/ml/mtqf019a/mtqf019a.pdf
footprint TI-PFB48_N (QFP, 48-Leads, Body 7x7mm, Pitch 0.5mm, IPC Medium Density)
footprint TI-PFB48_L (QFP, 48-Leads, Body 7x7mm, Pitch 0.5mm, IPC High Density)
footprint TI-PFB48_M (QFP, 48-Leads, Body 7x7mm, Pitch 0.5mm, IPC Low Density)
part A pins: 4 VCAINNA (in) "Channel A VCA Negative Input", 5 VCAINPA (in) "Channel A VCA Positive Input", 6 LNPOUTNA (out) "Channel A LNP Negative Output", 7 LNPOUTPA (out) "Channel A LNP Positive Output", 8 SWFBA (out) "Channel A Switched Feedback Output", 9 FBA (out) "Channel A Feedback Output", 10 COMP1A (in) "Channel A Frequency Compensation 1", 11 COMP2A (in) "Channel A Frequency Compensation 2", 12 LNPINNA (in) "Channel A LNP Inverting Input", 13 LNPGS3A (in) "Channel A LNP Gain Strap 3", 14 LNPGS2A (in) "Channel A LNP Gain Strap 2", 15 LNPGS1A (in) "Channel A LNP Gain Strap 1", 16 LNPINPA (in) "Channel A LNP Noninverting Input", 46 VCAOUTPA (out) "Channel A VCA Positive Output", 47 VCAOUTNA (out) "Channel A VCA Negative Output"
part B pins: 21 LNPINPB (in) "Channel B LNP Noninverting Input", 22 LNPGS1B (in) "Channel B LNP Gain Strap 1", 23 LNPGS2B (in) "Channel B LNP Gain Strap 2", 24 LNPGS3B (in) "Channel B LNP Gain Strap 3", 25 LNPINNB (in) "Channel B LNP Inverting Input", 26 COMP2B (in) "Channel B Frequency Compensation 2", 27 COMP1B (in) "Channel B Frequency Compensation 1", 28 FBB (out) "Channel B Feedback Output", 29 SWFBB (out) "Channel B Switched Feedback Output", 30 LNPOUTPB (out) "Channel B LNP Positive Output", 31 LNPOUTNB (out) "Channel B LNP Negative Output", 32 VCAINPB (in) "Channel B VCA Positive Input", 33 VCAINNB (in) "Channel B VCA Negative Input", 38 VCAOUTNB (out) "Channel B VCA Negative Output", 39 VCAOUTPB (out) "Channel B VCA Positive Output"
part C pins: 1 VDDA (power) "Channel A +Supply", 2 NC "Do Not Connect", 3 NC "Do Not Connect", 17 VDDR (power) "+Supply for Internal Reference (+5V)", 18 VBIAS (power) "0.01uF Bypass to Ground", 19 VCM (power) "0.01uF Bypass to Ground", 20 GNDR (power) "Ground for Internal Reference", 34 NC "Do Not Connect", 35 NC "Do Not Connect", 36 VDDB (power) "Channel B +Analog Supply", 37 GNDB (power) "Channel B Analog Ground", 40 MGS3 (in) "Maximum Gain Select 3 (LSB)", 41 MGS2 (in) "Maximum Gain Select 2", 42 MGS1 (in) "Maximum Gain Select 1 (MSB)", 43 VCACNTL (in) "VCA Control Voltage", 44 VCAINSEL (in) "VCA Input Select, HI = External", 45 FBSWCNTL (in) "Feedback Switch Control: HI = ON", 48 GNDA (power) "Channel A Analog Ground"

## VCA2612Y/2KG4
designator U?
Dual Variable Gain Amplifier with Low Noise Pre-Amplifier, -40 to 85 degC, 48-pin QFP (PFB48), Green (RoHS & no Sb/Br); Manufacturer: Texas Instruments; PartNumber: VCA2612Y/2KG4; BW @ Acl(MHz): 40; Iib(Max)(nA): 1; Number of Channels: 2; Slew Rate(Typ)(V/us): 300; Vn at Flatband(Typ)(nV/rtHz): 3.5; Vs(Max)(V): 5.25; Vs(Min)(V): 4.75; DatasheetVersion: SBOS117C; PackageVersion: 4073176/B, 10/1996; PackageReference: PFB48; PackageDescription: 48-Pin Plastic Flat Pack, Body 7 x 7 mm, Pitch 0.5 mm; Supplier 1: Digi-Key; Supplier Part Number 1: VCA2612Y/2KG4-ND; Supplier 2: Newark; Supplier Part Number 2: 52K5963; Supplier 3: Mouser; Supplier Part Number 3: 595-VCA2612Y/2KG4; Eco-Plan: Green (RoHS & no Sb/Br); SubFamily: Variable Gain Amplifier; Mounting Technology: Surface Mount; Code_JEDEC: MS-026; ComponentLink1Description: Manufacturer URL; ComponentLink1URL: http://www.ti.com/; ComponentLink2Description: Datasheet; ComponentLink2URL: http://www.ti.com/general/docs/lit/getliterature.tsp?genericPartNumber=VCA2612&fileType=pdf; ComponentLink3Description: Package Specification; ComponentLink3URL: http://www.ti.com/lit/ml/mtqf019a/mtqf019a.pdf
footprint TI-PFB48_N (QFP, 48-Leads, Body 7x7mm, Pitch 0.5mm, IPC Medium Density)
footprint TI-PFB48_L (QFP, 48-Leads, Body 7x7mm, Pitch 0.5mm, IPC High Density)
footprint TI-PFB48_M (QFP, 48-Leads, Body 7x7mm, Pitch 0.5mm, IPC Low Density)
part A pins: 4 VCAINNA (in) "Channel A VCA Negative Input", 5 VCAINPA (in) "Channel A VCA Positive Input", 6 LNPOUTNA (out) "Channel A LNP Negative Output", 7 LNPOUTPA (out) "Channel A LNP Positive Output", 8 SWFBA (out) "Channel A Switched Feedback Output", 9 FBA (out) "Channel A Feedback Output", 10 COMP1A (in) "Channel A Frequency Compensation 1", 11 COMP2A (in) "Channel A Frequency Compensation 2", 12 LNPINNA (in) "Channel A LNP Inverting Input", 13 LNPGS3A (in) "Channel A LNP Gain Strap 3", 14 LNPGS2A (in) "Channel A LNP Gain Strap 2", 15 LNPGS1A (in) "Channel A LNP Gain Strap 1", 16 LNPINPA (in) "Channel A LNP Noninverting Input", 46 VCAOUTPA (out) "Channel A VCA Positive Output", 47 VCAOUTNA (out) "Channel A VCA Negative Output"
part B pins: 21 LNPINPB (in) "Channel B LNP Noninverting Input", 22 LNPGS1B (in) "Channel B LNP Gain Strap 1", 23 LNPGS2B (in) "Channel B LNP Gain Strap 2", 24 LNPGS3B (in) "Channel B LNP Gain Strap 3", 25 LNPINNB (in) "Channel B LNP Inverting Input", 26 COMP2B (in) "Channel B Frequency Compensation 2", 27 COMP1B (in) "Channel B Frequency Compensation 1", 28 FBB (out) "Channel B Feedback Output", 29 SWFBB (out) "Channel B Switched Feedback Output", 30 LNPOUTPB (out) "Channel B LNP Positive Output", 31 LNPOUTNB (out) "Channel B LNP Negative Output", 32 VCAINPB (in) "Channel B VCA Positive Input", 33 VCAINNB (in) "Channel B VCA Negative Input", 38 VCAOUTNB (out) "Channel B VCA Negative Output", 39 VCAOUTPB (out) "Channel B VCA Positive Output"
part C pins: 1 VDDA (power) "Channel A +Supply", 2 NC "Do Not Connect", 3 NC "Do Not Connect", 17 VDDR (power) "+Supply for Internal Reference (+5V)", 18 VBIAS (power) "0.01uF Bypass to Ground", 19 VCM (power) "0.01uF Bypass to Ground", 20 GNDR (power) "Ground for Internal Reference", 34 NC "Do Not Connect", 35 NC "Do Not Connect", 36 VDDB (power) "Channel B +Analog Supply", 37 GNDB (power) "Channel B Analog Ground", 40 MGS3 (in) "Maximum Gain Select 3 (LSB)", 41 MGS2 (in) "Maximum Gain Select 2", 42 MGS1 (in) "Maximum Gain Select 1 (MSB)", 43 VCACNTL (in) "VCA Control Voltage", 44 VCAINSEL (in) "VCA Input Select, HI = External", 45 FBSWCNTL (in) "Feedback Switch Control: HI = ON", 48 GNDA (power) "Channel A Analog Ground"

## VCA2612Y/250
designator U?
Dual Variable Gain Amplifier with Low Noise Pre-Amplifier, -40 to 85 degC, 48-pin QFP (PFB48), Green (RoHS & no Sb/Br); Manufacturer: Texas Instruments; PartNumber: VCA2612Y/250; BW @ Acl(MHz): 40; Iib(Max)(nA): 1; Number of Channels: 2; Slew Rate(Typ)(V/us): 300; Vn at Flatband(Typ)(nV/rtHz): 3.5; Vs(Max)(V): 5.25; Vs(Min)(V): 4.75; DatasheetVersion: SBOS117C; PackageVersion: 4073176/B, 10/1996; PackageReference: PFB48; PackageDescription: 48-Pin Plastic Flat Pack, Body 7 x 7 mm, Pitch 0.5 mm; Supplier 1: Digi-Key; Supplier Part Number 1: VCA2612YTR-ND; Supplier 2: Digi-Key; Supplier Part Number 2: VCA2612YCT-ND; Supplier 3: Digi-Key; Supplier Part Number 3: VCA2612YDKR-ND; Supplier 4: Mouser; Supplier Part Number 4: 595-VCA2612Y/250; Eco-Plan: Green (RoHS & no Sb/Br); SubFamily: Variable Gain Amplifier; Mounting Technology: Surface Mount; Code_JEDEC: MS-026; ComponentLink1Description: Manufacturer URL; ComponentLink1URL: http://www.ti.com/; ComponentLink2Description: Datasheet; ComponentLink2URL: http://www.ti.com/general/docs/lit/getliterature.tsp?genericPartNumber=VCA2612&fileType=pdf; ComponentLink3Description: Package Specification; ComponentLink3URL: http://www.ti.com/lit/ml/mtqf019a/mtqf019a.pdf
footprint TI-PFB48_N (QFP, 48-Leads, Body 7x7mm, Pitch 0.5mm, IPC Medium Density)
footprint TI-PFB48_L (QFP, 48-Leads, Body 7x7mm, Pitch 0.5mm, IPC High Density)
footprint TI-PFB48_M (QFP, 48-Leads, Body 7x7mm, Pitch 0.5mm, IPC Low Density)
part A pins: 4 VCAINNA (in) "Channel A VCA Negative Input", 5 VCAINPA (in) "Channel A VCA Positive Input", 6 LNPOUTNA (out) "Channel A LNP Negative Output", 7 LNPOUTPA (out) "Channel A LNP Positive Output", 8 SWFBA (out) "Channel A Switched Feedback Output", 9 FBA (out) "Channel A Feedback Output", 10 COMP1A (in) "Channel A Frequency Compensation 1", 11 COMP2A (in) "Channel A Frequency Compensation 2", 12 LNPINNA (in) "Channel A LNP Inverting Input", 13 LNPGS3A (in) "Channel A LNP Gain Strap 3", 14 LNPGS2A (in) "Channel A LNP Gain Strap 2", 15 LNPGS1A (in) "Channel A LNP Gain Strap 1", 16 LNPINPA (in) "Channel A LNP Noninverting Input", 46 VCAOUTPA (out) "Channel A VCA Positive Output", 47 VCAOUTNA (out) "Channel A VCA Negative Output"
part B pins: 21 LNPINPB (in) "Channel B LNP Noninverting Input", 22 LNPGS1B (in) "Channel B LNP Gain Strap 1", 23 LNPGS2B (in) "Channel B LNP Gain Strap 2", 24 LNPGS3B (in) "Channel B LNP Gain Strap 3", 25 LNPINNB (in) "Channel B LNP Inverting Input", 26 COMP2B (in) "Channel B Frequency Compensation 2", 27 COMP1B (in) "Channel B Frequency Compensation 1", 28 FBB (out) "Channel B Feedback Output", 29 SWFBB (out) "Channel B Switched Feedback Output", 30 LNPOUTPB (out) "Channel B LNP Positive Output", 31 LNPOUTNB (out) "Channel B LNP Negative Output", 32 VCAINPB (in) "Channel B VCA Positive Input", 33 VCAINNB (in) "Channel B VCA Negative Input", 38 VCAOUTNB (out) "Channel B VCA Negative Output", 39 VCAOUTPB (out) "Channel B VCA Positive Output"
part C pins: 1 VDDA (power) "Channel A +Supply", 2 NC "Do Not Connect", 3 NC "Do Not Connect", 17 VDDR (power) "+Supply for Internal Reference (+5V)", 18 VBIAS (power) "0.01uF Bypass to Ground", 19 VCM (power) "0.01uF Bypass to Ground", 20 GNDR (power) "Ground for Internal Reference", 34 NC "Do Not Connect", 35 NC "Do Not Connect", 36 VDDB (power) "Channel B +Analog Supply", 37 GNDB (power) "Channel B Analog Ground", 40 MGS3 (in) "Maximum Gain Select 3 (LSB)", 41 MGS2 (in) "Maximum Gain Select 2", 42 MGS1 (in) "Maximum Gain Select 1 (MSB)", 43 VCACNTL (in) "VCA Control Voltage", 44 VCAINSEL (in) "VCA Input Select, HI = External", 45 FBSWCNTL (in) "Feedback Switch Control: HI = ON", 48 GNDA (power) "Channel A Analog Ground"